# Altium schematic symbol library 5cstfd5.SchLib: 1 symbol
Pins are listed as number, name and electrical type; pins without a type are passive.

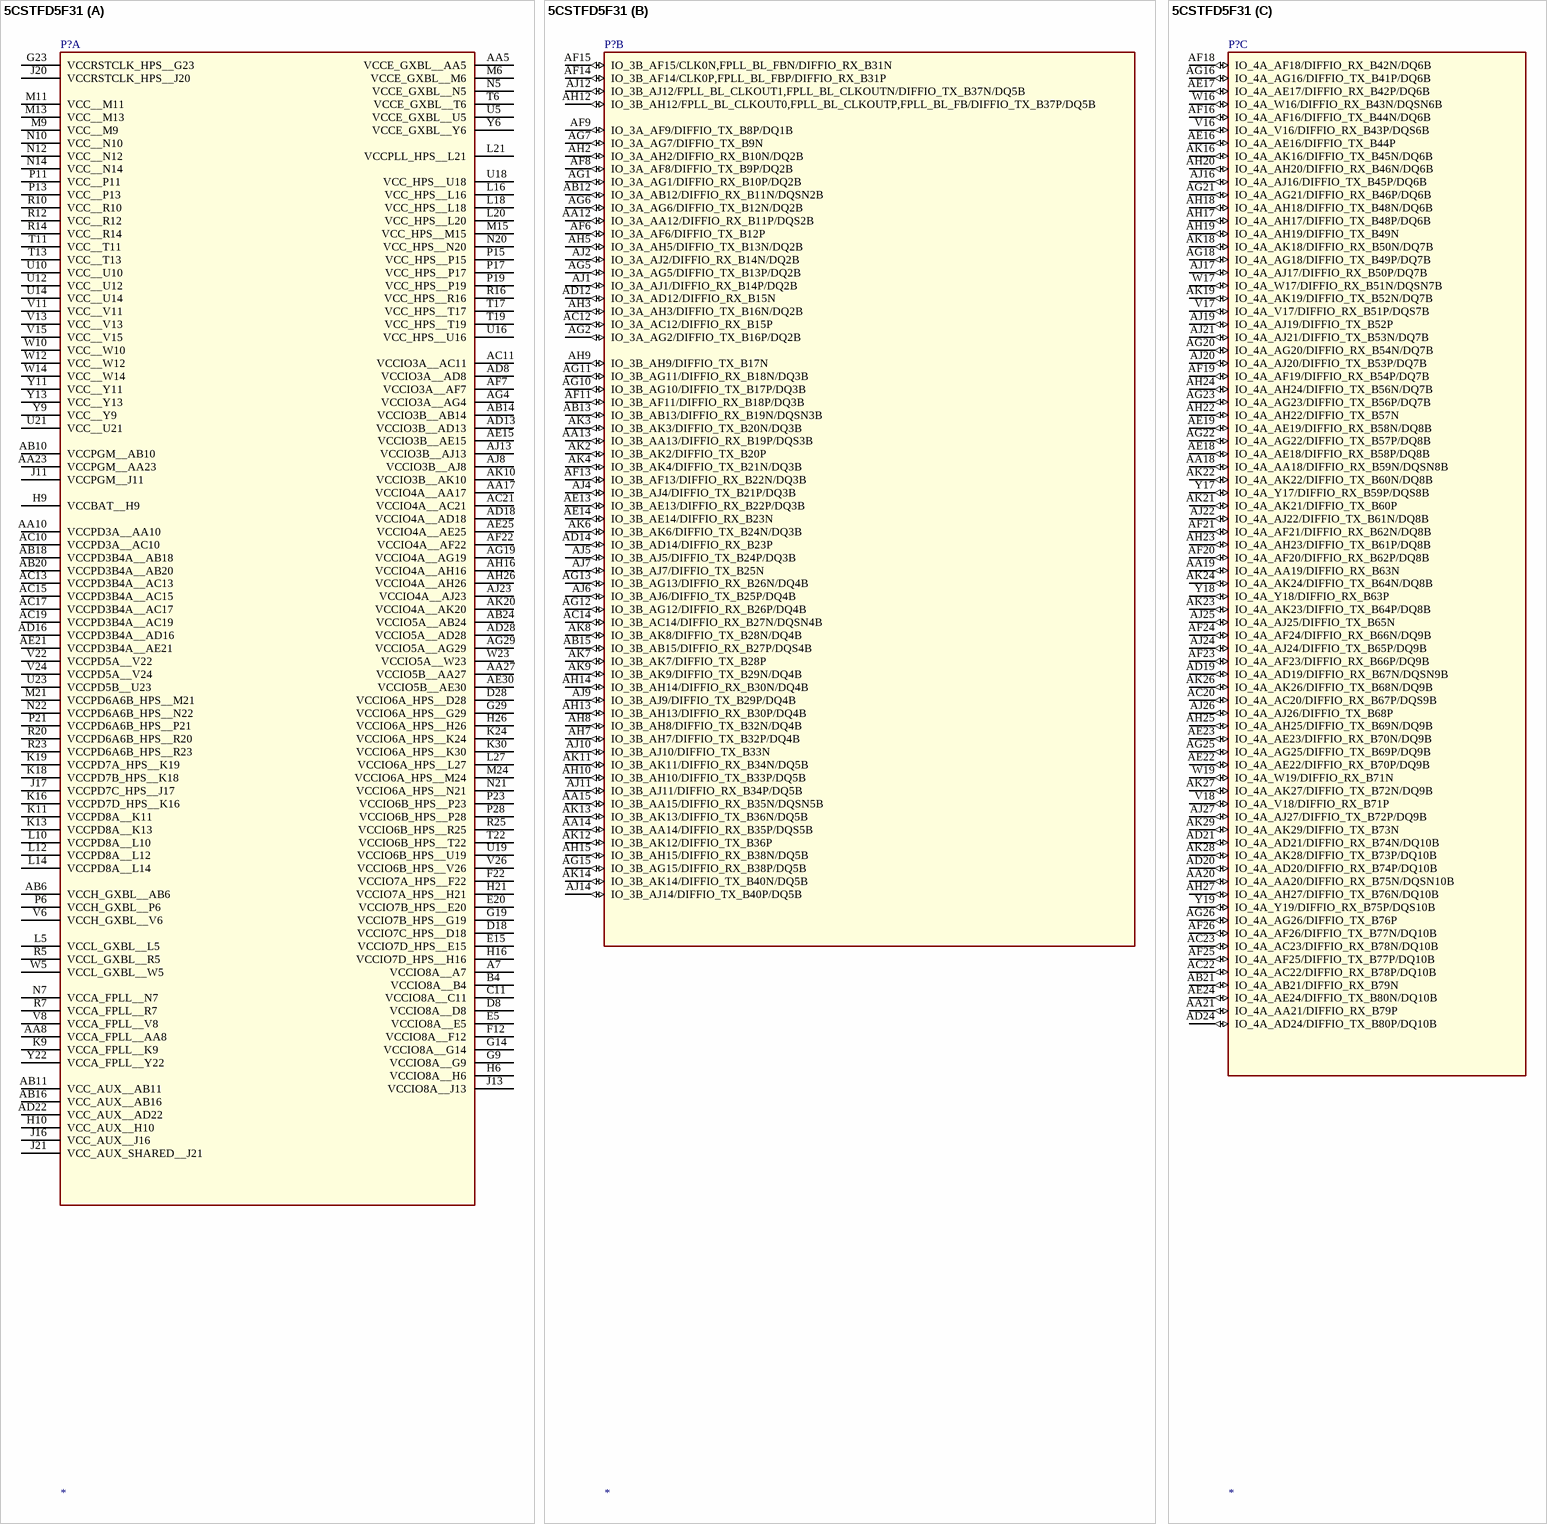
[diagram p0: symbol 5CSTFD5F31]

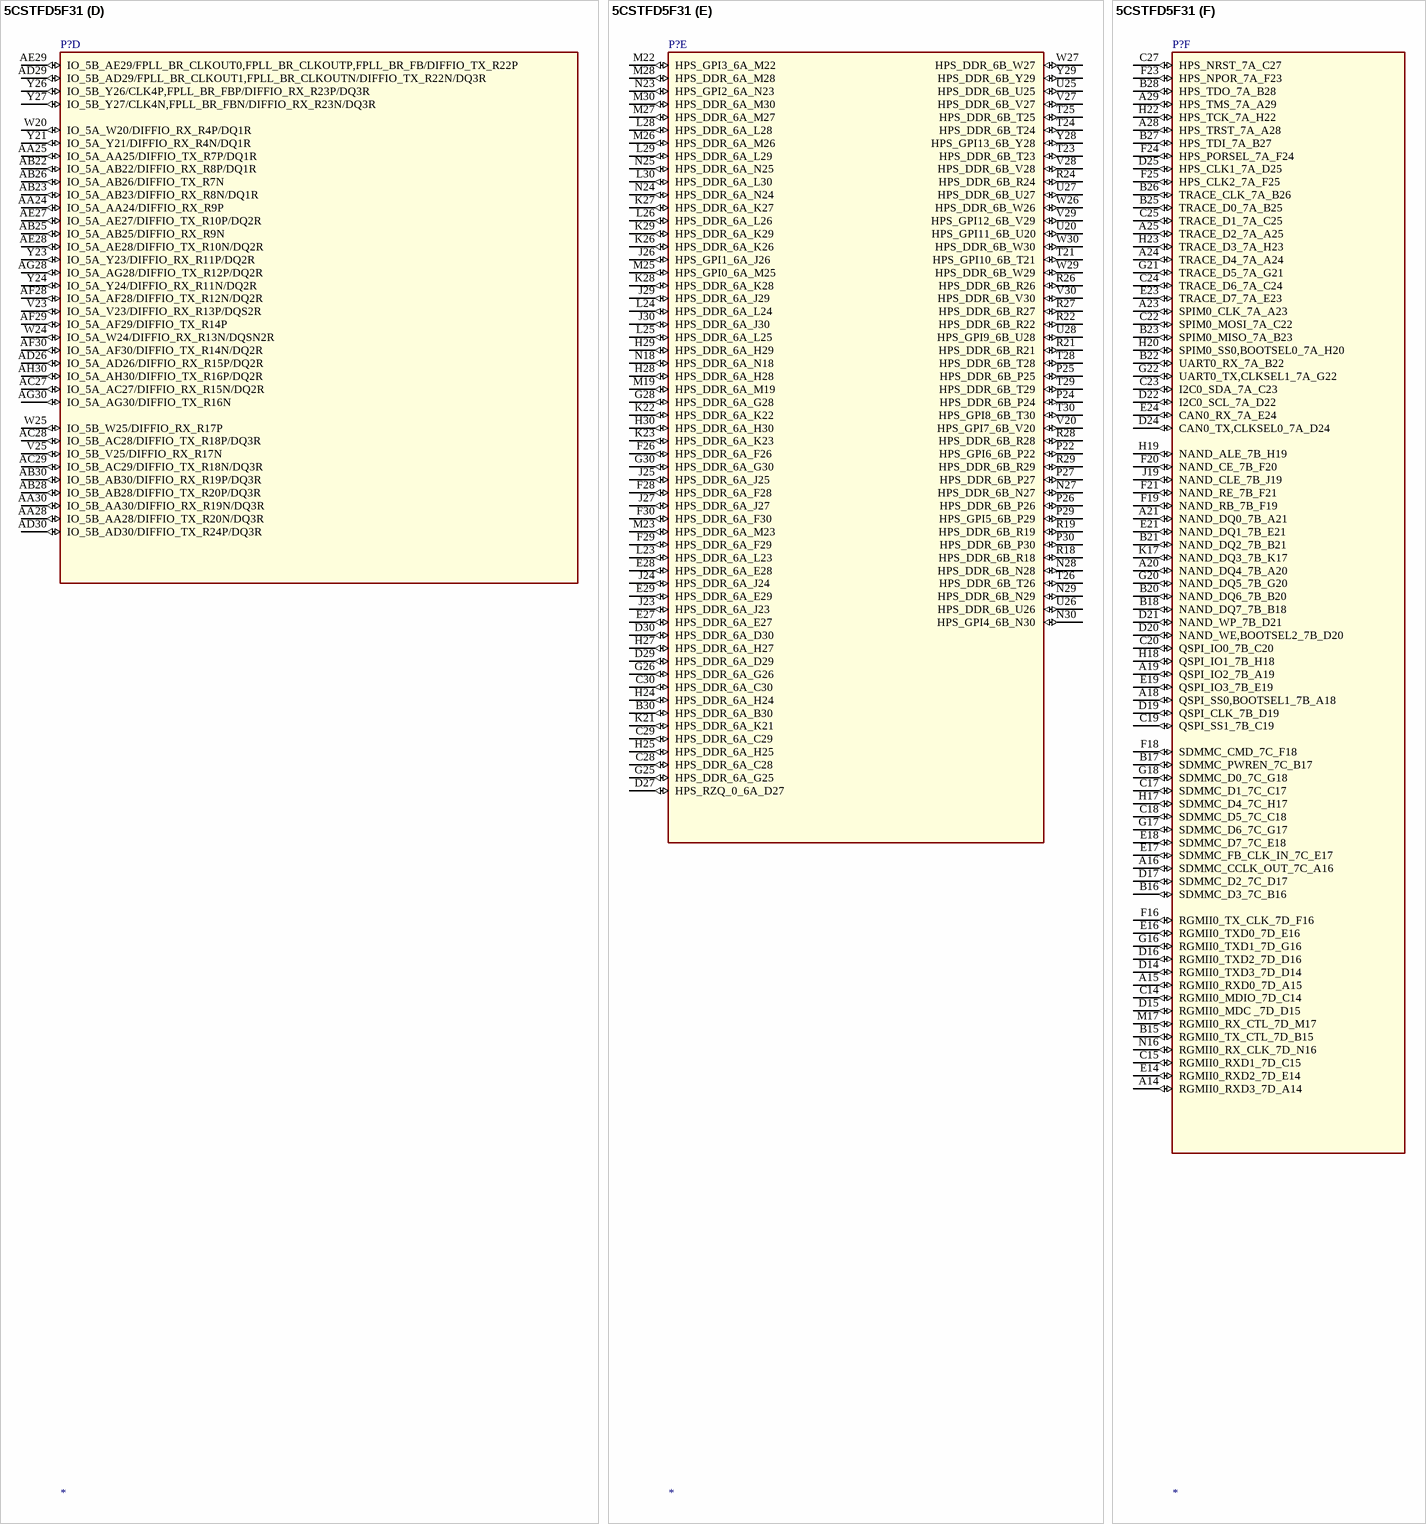
[diagram p1: symbol 5CSTFD5F31]

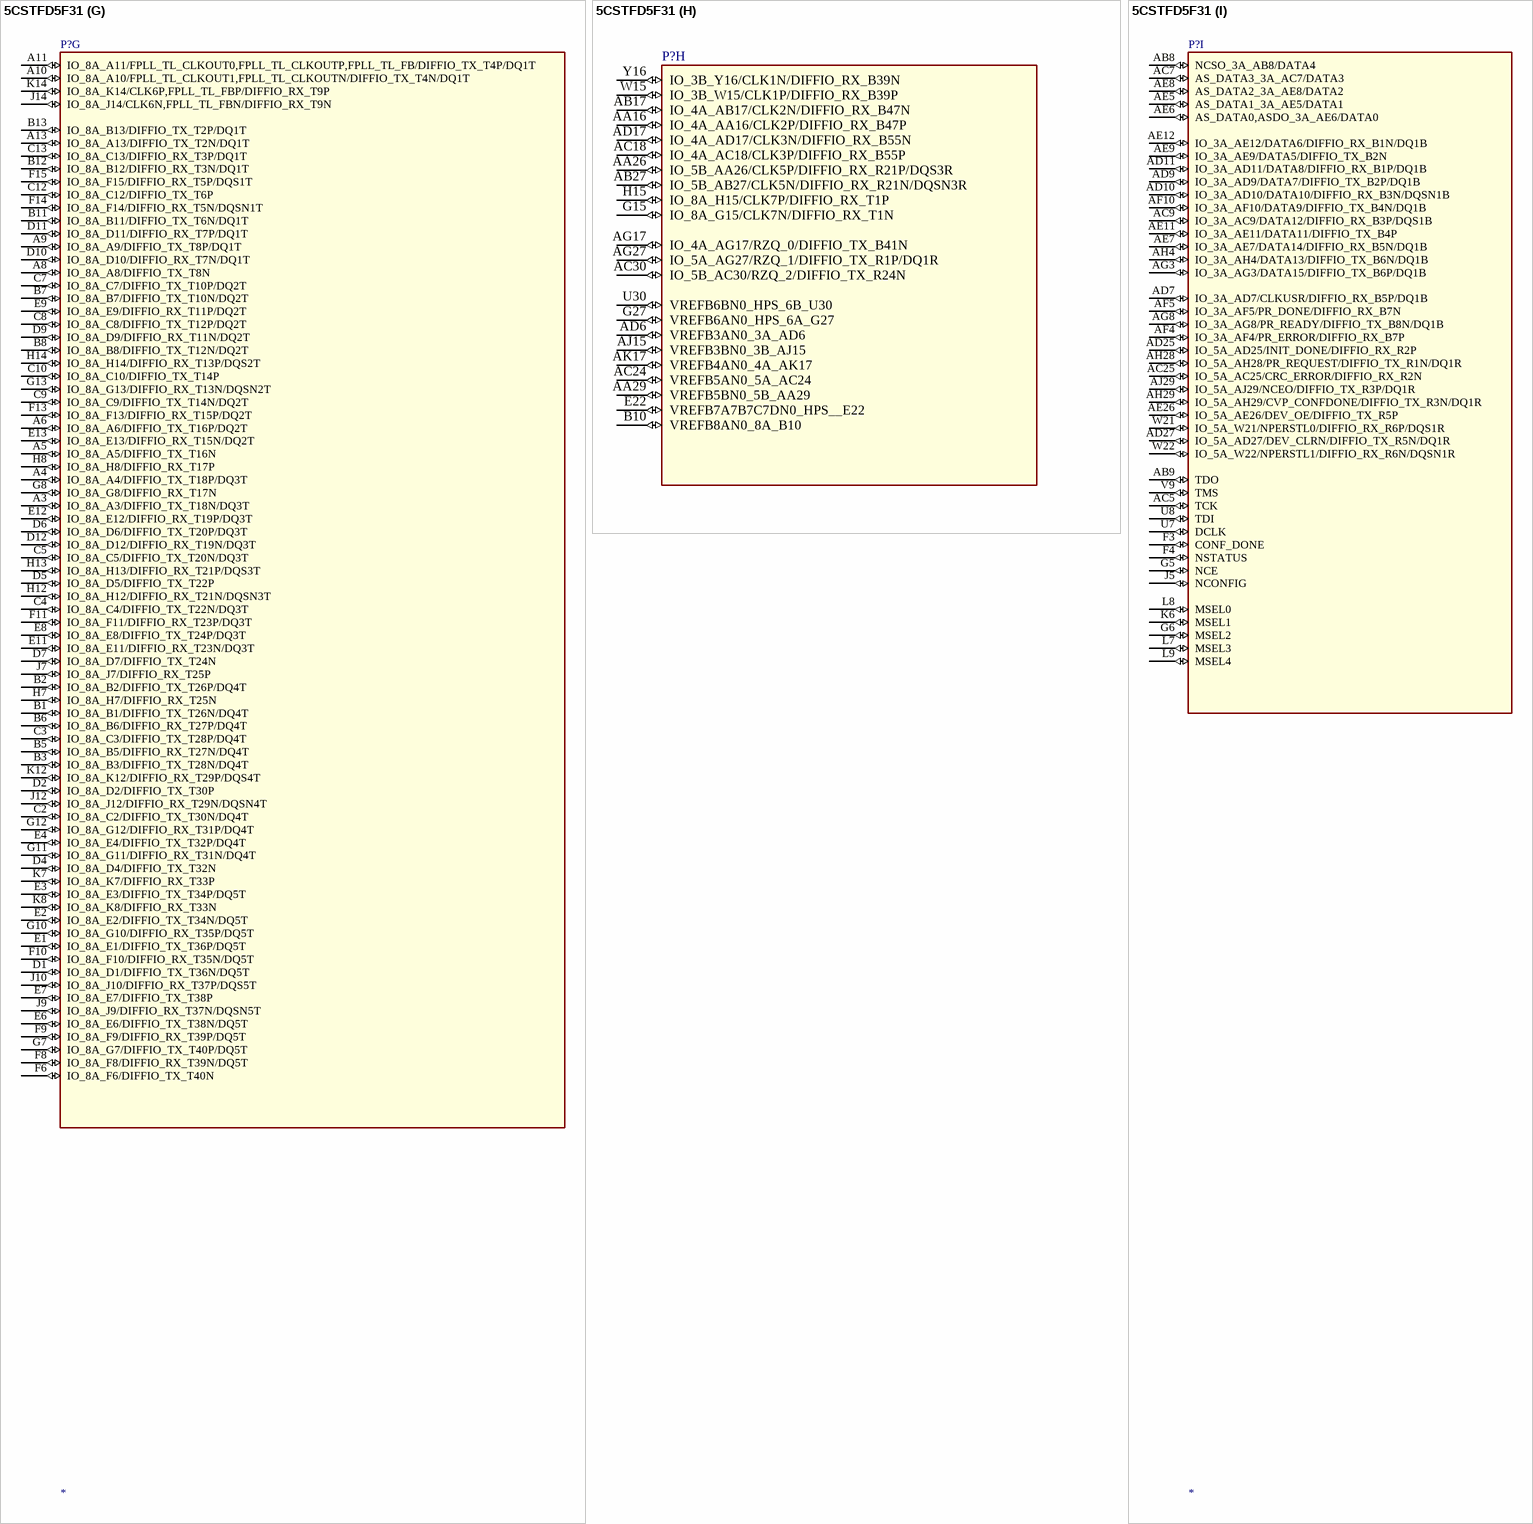
[diagram p2: symbol 5CSTFD5F31]

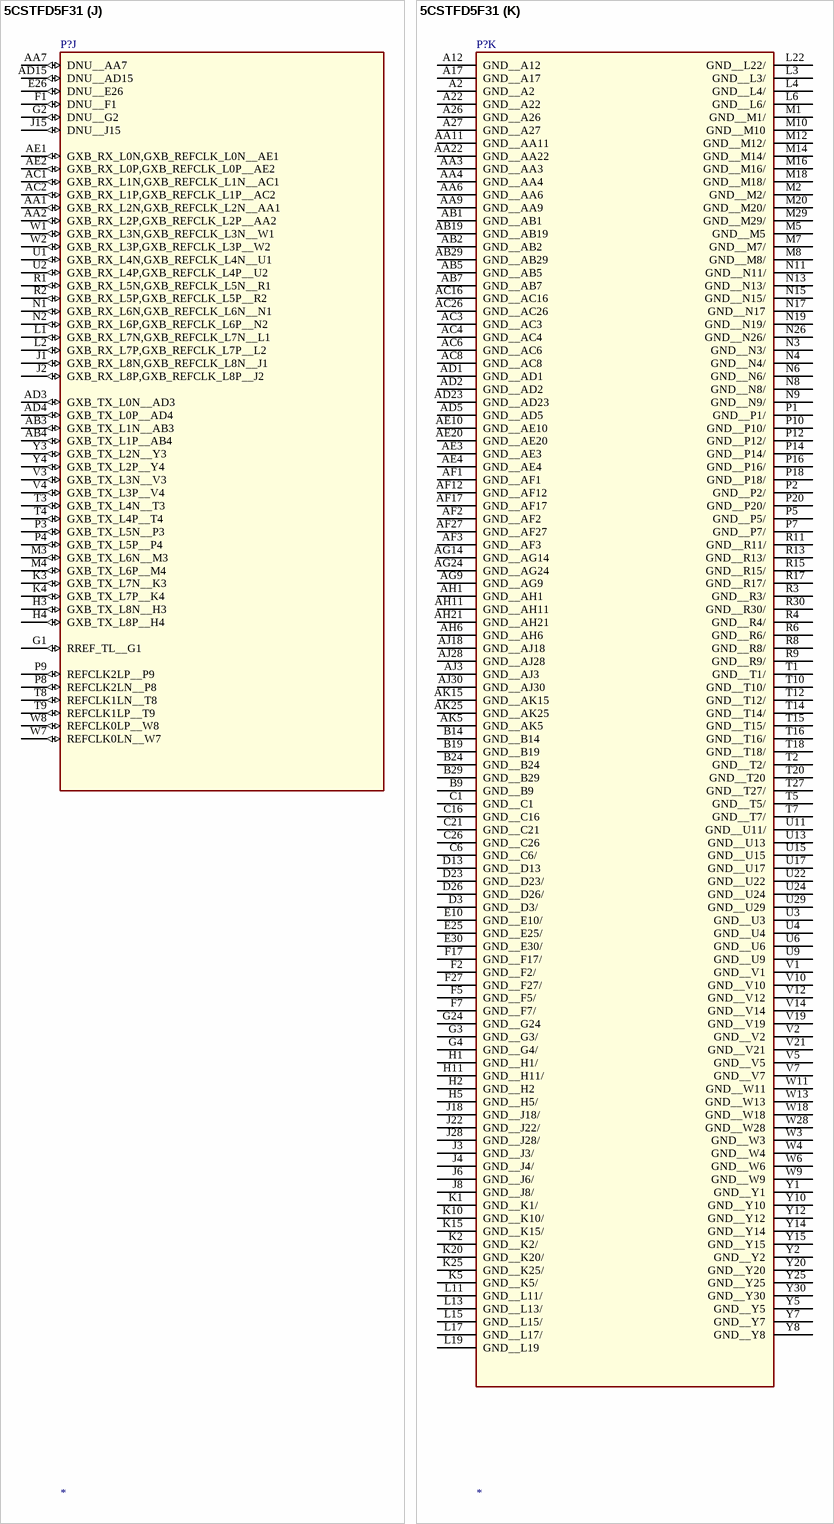
[diagram p3: symbol 5CSTFD5F31]

## 5CSTFD5F31
designator P?
SPLIT_INST: TRUE; SWAP_INFO: (S1+S2+S3+S4+S5+S6+S7+S8+S9+S10+S11)
part A pins: A7 VCCIO8A__A7 (power), AA5 VCCE_GXBL__AA5 (power), AA8 VCCA_FPLL__AA8 (power), AA10 VCCPD3A__AA10 (power), AA17 VCCIO4A__AA17 (power), AA23 VCCPGM__AA23 (power), AA27 VCCIO5B__AA27 (power), AB6 VCCH_GXBL__AB6 (power), AB10 VCCPGM__AB10 (power), AB11 VCC_AUX__AB11 (power), AB14 VCCIO3B__AB14 (power), AB16 VCC_AUX__AB16 (power), AB18 VCCPD3B4A__AB18 (power), AB20 VCCPD3B4A__AB20 (power), AB24 VCCIO5A__AB24 (power), AC10 VCCPD3A__AC10 (power), AC11 VCCIO3A__AC11 (power), AC13 VCCPD3B4A__AC13 (power), AC15 VCCPD3B4A__AC15 (power), AC17 VCCPD3B4A__AC17 (power), AC19 VCCPD3B4A__AC19 (power), AC21 VCCIO4A__AC21 (power), AD8 VCCIO3A__AD8 (power), AD13 VCCIO3B__AD13 (power), AD16 VCCPD3B4A__AD16 (power), AD18 VCCIO4A__AD18 (power), AD22 VCC_AUX__AD22 (power), AD28 VCCIO5A__AD28 (power), AE15 VCCIO3B__AE15 (power), AE21 VCCPD3B4A__AE21 (power), AE25 VCCIO4A__AE25 (power), AE30 VCCIO5B__AE30 (power), AF7 VCCIO3A__AF7 (power), AF22 VCCIO4A__AF22 (power), AG4 VCCIO3A__AG4 (power), AG19 VCCIO4A__AG19 (power), AG29 VCCIO5A__AG29 (power), AH16 VCCIO4A__AH16 (power), AH26 VCCIO4A__AH26 (power), AJ8 VCCIO3B__AJ8 (power), AJ13 VCCIO3B__AJ13 (power), AJ23 VCCIO4A__AJ23 (power), AK10 VCCIO3B__AK10 (power), AK20 VCCIO4A__AK20 (power), B4 VCCIO8A__B4 (power), C11 VCCIO8A__C11 (power), D8 VCCIO8A__D8 (power), D18 VCCIO7C_HPS__D18 (power), D28 VCCIO6A_HPS__D28 (power), E5 VCCIO8A__E5 (power), E15 VCCIO7D_HPS__E15 (power), E20 VCCIO7B_HPS__E20 (power), F12 VCCIO8A__F12 (power), F22 VCCIO7A_HPS__F22 (power), G9 VCCIO8A__G9 (power), G14 VCCIO8A__G14 (power), G19 VCCIO7B_HPS__G19 (power), G23 VCCRSTCLK_HPS__G23 (power), G29 VCCIO6A_HPS__G29 (power), H6 VCCIO8A__H6 (power), H9 VCCBAT__H9 (power), H10 VCC_AUX__H10 (power), H16 VCCIO7D_HPS__H16 (power), H21 VCCIO7A_HPS__H21 (power), H26 VCCIO6A_HPS__H26 (power), J11 VCCPGM__J11 (power), J13 VCCIO8A__J13 (power), J16 VCC_AUX__J16 (power), J17 VCCPD7C_HPS__J17 (power), J20 VCCRSTCLK_HPS__J20 (power), J21 VCC_AUX_SHARED__J21 (power), K9 VCCA_FPLL__K9 (power), K11 VCCPD8A__K11 (power), K13 VCCPD8A__K13 (power), K16 VCCPD7D_HPS__K16 (power), K18 VCCPD7B_HPS__K18 (power), K19 VCCPD7A_HPS__K19 (power), K24 VCCIO6A_HPS__K24 (power), K30 VCCIO6A_HPS__K30 (power), L5 VCCL_GXBL__L5 (power), L10 VCCPD8A__L10 (power), L12 VCCPD8A__L12 (power), L14 VCCPD8A__L14 (power), L16 VCC_HPS__L16 (power), L18 VCC_HPS__L18 (power), L20 VCC_HPS__L20 (power), L21 VCCPLL_HPS__L21 (power), L27 VCCIO6A_HPS__L27 (power), M6 VCCE_GXBL__M6 (power), M9 VCC__M9 (power), M11 VCC__M11 (power), M13 VCC__M13 (power), M15 VCC_HPS__M15 (power), M21 VCCPD6A6B_HPS__M21 (power), M24 VCCIO6A_HPS__M24 (power), N5 VCCE_GXBL__N5 (power), N7 VCCA_FPLL__N7 (power), N10 VCC__N10 (power), N12 VCC__N12 (power), N14 VCC__N14 (power), N20 VCC_HPS__N20 (power), N21 VCCIO6A_HPS__N21 (power), N22 VCCPD6A6B_HPS__N22 (power), P6 VCCH_GXBL__P6 (power), P11 VCC__P11 (power), P13 VCC__P13 (power), P15 VCC_HPS__P15 (power), P17 VCC_HPS__P17 (power), P19 VCC_HPS__P19 (power), P21 VCCPD6A6B_HPS__P21 (power), P23 VCCIO6B_HPS__P23 (power), P28 VCCIO6B_HPS__P28 (power), R5 VCCL_GXBL__R5 (power), R7 VCCA_FPLL__R7 (power), R10 VCC__R10 (power), R12 VCC__R12 (power), R14 VCC__R14 (power), R16 VCC_HPS__R16 (power), R20 VCCPD6A6B_HPS__R20 (power), R23 VCCPD6A6B_HPS__R23 (power), R25 VCCIO6B_HPS__R25 (power), T6 VCCE_GXBL__T6 (power), T11 VCC__T11 (power), T13 VCC__T13 (power), T17 VCC_HPS__T17 (power), T19 VCC_HPS__T19 (power), T22 VCCIO6B_HPS__T22 (power), U5 VCCE_GXBL__U5 (power), U10 VCC__U10 (power), U12 VCC__U12 (power), U14 VCC__U14 (power), U16 VCC_HPS__U16 (power), U18 VCC_HPS__U18 (power), U19 VCCIO6B_HPS__U19 (power), U21 VCC__U21 (power), U23 VCCPD5B__U23 (power), V6 VCCH_GXBL__V6 (power), V8 VCCA_FPLL__V8 (power), V11 VCC__V11 (power), V13 VCC__V13 (power), V15 VCC__V15 (power), V22 VCCPD5A__V22 (power), V24 VCCPD5A__V24 (power), V26 VCCIO6B_HPS__V26 (power), W5 VCCL_GXBL__W5 (power), W10 VCC__W10 (power), W12 VCC__W12 (power), W14 VCC__W14 (power), W23 VCCIO5A__W23 (power), Y6 VCCE_GXBL__Y6 (power), Y9 VCC__Y9 (power), Y11 VCC__Y11 (power), Y13 VCC__Y13 (power), Y22 VCCA_FPLL__Y22 (power)
part B pins: AA12 IO_3A_AA12/DIFFIO_RX_B11P/DQS2B (io), AA13 IO_3B_AA13/DIFFIO_RX_B19P/DQS3B (io), AA14 IO_3B_AA14/DIFFIO_RX_B35P/DQS5B (io), AA15 IO_3B_AA15/DIFFIO_RX_B35N/DQSN5B (io), AB12 IO_3A_AB12/DIFFIO_RX_B11N/DQSN2B (io), AB13 IO_3B_AB13/DIFFIO_RX_B19N/DQSN3B (io), AB15 IO_3B_AB15/DIFFIO_RX_B27P/DQS4B (io), AC12 IO_3A_AC12/DIFFIO_RX_B15P (io), AC14 IO_3B_AC14/DIFFIO_RX_B27N/DQSN4B (io), AD12 IO_3A_AD12/DIFFIO_RX_B15N (io), AD14 IO_3B_AD14/DIFFIO_RX_B23P (io), AE13 IO_3B_AE13/DIFFIO_RX_B22P/DQ3B (io), AE14 IO_3B_AE14/DIFFIO_RX_B23N (io), AF6 IO_3A_AF6/DIFFIO_TX_B12P (io), AF8 IO_3A_AF8/DIFFIO_TX_B9P/DQ2B (io), AF9 IO_3A_AF9/DIFFIO_TX_B8P/DQ1B (io), AF11 IO_3B_AF11/DIFFIO_RX_B18P/DQ3B (io), AF13 IO_3B_AF13/DIFFIO_RX_B22N/DQ3B (io), AF14 IO_3B_AF14/CLK0P,FPLL_BL_FBP/DIFFIO_RX_B31P (io), AF15 IO_3B_AF15/CLK0N,FPLL_BL_FBN/DIFFIO_RX_B31N (io), AG1 IO_3A_AG1/DIFFIO_RX_B10P/DQ2B (io), AG2 IO_3A_AG2/DIFFIO_TX_B16P/DQ2B (io), AG5 IO_3A_AG5/DIFFIO_TX_B13P/DQ2B (io), AG6 IO_3A_AG6/DIFFIO_TX_B12N/DQ2B (io), AG7 IO_3A_AG7/DIFFIO_TX_B9N (io), AG10 IO_3B_AG10/DIFFIO_TX_B17P/DQ3B (io), AG11 IO_3B_AG11/DIFFIO_RX_B18N/DQ3B (io), AG12 IO_3B_AG12/DIFFIO_RX_B26P/DQ4B (io), AG13 IO_3B_AG13/DIFFIO_RX_B26N/DQ4B (io), AG15 IO_3B_AG15/DIFFIO_RX_B38P/DQ5B (io), AH2 IO_3A_AH2/DIFFIO_RX_B10N/DQ2B (io), AH3 IO_3A_AH3/DIFFIO_TX_B16N/DQ2B (io), AH5 IO_3A_AH5/DIFFIO_TX_B13N/DQ2B (io), AH7 IO_3B_AH7/DIFFIO_TX_B32P/DQ4B (io), AH8 IO_3B_AH8/DIFFIO_TX_B32N/DQ4B (io), AH9 IO_3B_AH9/DIFFIO_TX_B17N (io), AH10 IO_3B_AH10/DIFFIO_TX_B33P/DQ5B (io), AH12 IO_3B_AH12/FPLL_BL_CLKOUT0,FPLL_BL_CLKOUTP,FPLL_BL_FB/DIFFIO_TX_B37P/DQ5B (io), AH13 IO_3B_AH13/DIFFIO_RX_B30P/DQ4B (io), AH14 IO_3B_AH14/DIFFIO_RX_B30N/DQ4B (io), AH15 IO_3B_AH15/DIFFIO_RX_B38N/DQ5B (io), AJ1 IO_3A_AJ1/DIFFIO_RX_B14P/DQ2B (io), AJ2 IO_3A_AJ2/DIFFIO_RX_B14N/DQ2B (io), AJ4 IO_3B_AJ4/DIFFIO_TX_B21P/DQ3B (io), AJ5 IO_3B_AJ5/DIFFIO_TX_B24P/DQ3B (io), AJ6 IO_3B_AJ6/DIFFIO_TX_B25P/DQ4B (io), AJ7 IO_3B_AJ7/DIFFIO_TX_B25N (io), AJ9 IO_3B_AJ9/DIFFIO_TX_B29P/DQ4B (io), AJ10 IO_3B_AJ10/DIFFIO_TX_B33N (io), AJ11 IO_3B_AJ11/DIFFIO_RX_B34P/DQ5B (io), AJ12 IO_3B_AJ12/FPLL_BL_CLKOUT1,FPLL_BL_CLKOUTN/DIFFIO_TX_B37N/DQ5B (io), AJ14 IO_3B_AJ14/DIFFIO_TX_B40P/DQ5B (io), AK2 IO_3B_AK2/DIFFIO_TX_B20P (io), AK3 IO_3B_AK3/DIFFIO_TX_B20N/DQ3B (io), AK4 IO_3B_AK4/DIFFIO_TX_B21N/DQ3B (io), AK6 IO_3B_AK6/DIFFIO_TX_B24N/DQ3B (io), AK7 IO_3B_AK7/DIFFIO_TX_B28P (io), AK8 IO_3B_AK8/DIFFIO_TX_B28N/DQ4B (io), AK9 IO_3B_AK9/DIFFIO_TX_B29N/DQ4B (io), AK11 IO_3B_AK11/DIFFIO_RX_B34N/DQ5B (io), AK12 IO_3B_AK12/DIFFIO_TX_B36P (io), AK13 IO_3B_AK13/DIFFIO_TX_B36N/DQ5B (io), AK14 IO_3B_AK14/DIFFIO_TX_B40N/DQ5B (io)
part C pins: AA18 IO_4A_AA18/DIFFIO_RX_B59N/DQSN8B (io), AA19 IO_4A_AA19/DIFFIO_RX_B63N (io), AA20 IO_4A_AA20/DIFFIO_RX_B75N/DQSN10B (io), AA21 IO_4A_AA21/DIFFIO_RX_B79P (io), AB21 IO_4A_AB21/DIFFIO_RX_B79N (io), AC20 IO_4A_AC20/DIFFIO_RX_B67P/DQS9B (io), AC22 IO_4A_AC22/DIFFIO_RX_B78P/DQ10B (io), AC23 IO_4A_AC23/DIFFIO_RX_B78N/DQ10B (io), AD19 IO_4A_AD19/DIFFIO_RX_B67N/DQSN9B (io), AD20 IO_4A_AD20/DIFFIO_RX_B74P/DQ10B (io), AD21 IO_4A_AD21/DIFFIO_RX_B74N/DQ10B (io), AD24 IO_4A_AD24/DIFFIO_TX_B80P/DQ10B (io), AE16 IO_4A_AE16/DIFFIO_TX_B44P (io), AE17 IO_4A_AE17/DIFFIO_RX_B42P/DQ6B (io), AE18 IO_4A_AE18/DIFFIO_RX_B58P/DQ8B (io), AE19 IO_4A_AE19/DIFFIO_RX_B58N/DQ8B (io), AE22 IO_4A_AE22/DIFFIO_RX_B70P/DQ9B (io), AE23 IO_4A_AE23/DIFFIO_RX_B70N/DQ9B (io), AE24 IO_4A_AE24/DIFFIO_TX_B80N/DQ10B (io), AF16 IO_4A_AF16/DIFFIO_TX_B44N/DQ6B (io), AF18 IO_4A_AF18/DIFFIO_RX_B42N/DQ6B (io), AF19 IO_4A_AF19/DIFFIO_RX_B54P/DQ7B (io), AF20 IO_4A_AF20/DIFFIO_RX_B62P/DQ8B (io), AF21 IO_4A_AF21/DIFFIO_RX_B62N/DQ8B (io), AF23 IO_4A_AF23/DIFFIO_RX_B66P/DQ9B (io), AF24 IO_4A_AF24/DIFFIO_RX_B66N/DQ9B (io), AF25 IO_4A_AF25/DIFFIO_TX_B77P/DQ10B (io), AF26 IO_4A_AF26/DIFFIO_TX_B77N/DQ10B (io), AG16 IO_4A_AG16/DIFFIO_TX_B41P/DQ6B (io), AG18 IO_4A_AG18/DIFFIO_TX_B49P/DQ7B (io), AG20 IO_4A_AG20/DIFFIO_RX_B54N/DQ7B (io), AG21 IO_4A_AG21/DIFFIO_RX_B46P/DQ6B (io), AG22 IO_4A_AG22/DIFFIO_TX_B57P/DQ8B (io), AG23 IO_4A_AG23/DIFFIO_TX_B56P/DQ7B (io), AG25 IO_4A_AG25/DIFFIO_TX_B69P/DQ9B (io), AG26 IO_4A_AG26/DIFFIO_TX_B76P (io), AH17 IO_4A_AH17/DIFFIO_TX_B48P/DQ6B (io), AH18 IO_4A_AH18/DIFFIO_TX_B48N/DQ6B (io), AH19 IO_4A_AH19/DIFFIO_TX_B49N (io), AH20 IO_4A_AH20/DIFFIO_RX_B46N/DQ6B (io), AH22 IO_4A_AH22/DIFFIO_TX_B57N (io), AH23 IO_4A_AH23/DIFFIO_TX_B61P/DQ8B (io), AH24 IO_4A_AH24/DIFFIO_TX_B56N/DQ7B (io), AH25 IO_4A_AH25/DIFFIO_TX_B69N/DQ9B (io), AH27 IO_4A_AH27/DIFFIO_TX_B76N/DQ10B (io), AJ16 IO_4A_AJ16/DIFFIO_TX_B45P/DQ6B (io), AJ17 IO_4A_AJ17/DIFFIO_RX_B50P/DQ7B (io), AJ19 IO_4A_AJ19/DIFFIO_TX_B52P (io), AJ20 IO_4A_AJ20/DIFFIO_TX_B53P/DQ7B (io), AJ21 IO_4A_AJ21/DIFFIO_TX_B53N/DQ7B (io), AJ22 IO_4A_AJ22/DIFFIO_TX_B61N/DQ8B (io), AJ24 IO_4A_AJ24/DIFFIO_TX_B65P/DQ9B (io), AJ25 IO_4A_AJ25/DIFFIO_TX_B65N (io), AJ26 IO_4A_AJ26/DIFFIO_TX_B68P (io), AJ27 IO_4A_AJ27/DIFFIO_TX_B72P/DQ9B (io), AK16 IO_4A_AK16/DIFFIO_TX_B45N/DQ6B (io), AK18 IO_4A_AK18/DIFFIO_RX_B50N/DQ7B (io), AK19 IO_4A_AK19/DIFFIO_TX_B52N/DQ7B (io), AK21 IO_4A_AK21/DIFFIO_TX_B60P (io), AK22 IO_4A_AK22/DIFFIO_TX_B60N/DQ8B (io), AK23 IO_4A_AK23/DIFFIO_TX_B64P/DQ8B (io), AK24 IO_4A_AK24/DIFFIO_TX_B64N/DQ8B (io), AK26 IO_4A_AK26/DIFFIO_TX_B68N/DQ9B (io), AK27 IO_4A_AK27/DIFFIO_TX_B72N/DQ9B (io), AK28 IO_4A_AK28/DIFFIO_TX_B73P/DQ10B (io), AK29 IO_4A_AK29/DIFFIO_TX_B73N (io), V16 IO_4A_V16/DIFFIO_RX_B43P/DQS6B (io), V17 IO_4A_V17/DIFFIO_RX_B51P/DQS7B (io), V18 IO_4A_V18/DIFFIO_RX_B71P (io), W16 IO_4A_W16/DIFFIO_RX_B43N/DQSN6B (io), W17 IO_4A_W17/DIFFIO_RX_B51N/DQSN7B (io), W19 IO_4A_W19/DIFFIO_RX_B71N (io), Y17 IO_4A_Y17/DIFFIO_RX_B59P/DQS8B (io), Y18 IO_4A_Y18/DIFFIO_RX_B63P (io), Y19 IO_4A_Y19/DIFFIO_RX_B75P/DQS10B (io)
part D pins: AA24 IO_5A_AA24/DIFFIO_RX_R9P (io), AA25 IO_5A_AA25/DIFFIO_TX_R7P/DQ1R (io), AA28 IO_5B_AA28/DIFFIO_TX_R20N/DQ3R (io), AA30 IO_5B_AA30/DIFFIO_RX_R19N/DQ3R (io), AB22 IO_5A_AB22/DIFFIO_RX_R8P/DQ1R (io), AB23 IO_5A_AB23/DIFFIO_RX_R8N/DQ1R (io), AB25 IO_5A_AB25/DIFFIO_RX_R9N (io), AB26 IO_5A_AB26/DIFFIO_TX_R7N (io), AB28 IO_5B_AB28/DIFFIO_TX_R20P/DQ3R (io), AB30 IO_5B_AB30/DIFFIO_RX_R19P/DQ3R (io), AC27 IO_5A_AC27/DIFFIO_RX_R15N/DQ2R (io), AC28 IO_5B_AC28/DIFFIO_TX_R18P/DQ3R (io), AC29 IO_5B_AC29/DIFFIO_TX_R18N/DQ3R (io), AD26 IO_5A_AD26/DIFFIO_RX_R15P/DQ2R (io), AD29 IO_5B_AD29/FPLL_BR_CLKOUT1,FPLL_BR_CLKOUTN/DIFFIO_TX_R22N/DQ3R (io), AD30 IO_5B_AD30/DIFFIO_TX_R24P/DQ3R (io), AE27 IO_5A_AE27/DIFFIO_TX_R10P/DQ2R (io), AE28 IO_5A_AE28/DIFFIO_TX_R10N/DQ2R (io), AE29 IO_5B_AE29/FPLL_BR_CLKOUT0,FPLL_BR_CLKOUTP,FPLL_BR_FB/DIFFIO_TX_R22P (io), AF28 IO_5A_AF28/DIFFIO_TX_R12N/DQ2R (io), AF29 IO_5A_AF29/DIFFIO_TX_R14P (io), AF30 IO_5A_AF30/DIFFIO_TX_R14N/DQ2R (io), AG28 IO_5A_AG28/DIFFIO_TX_R12P/DQ2R (io), AG30 IO_5A_AG30/DIFFIO_TX_R16N (io), AH30 IO_5A_AH30/DIFFIO_TX_R16P/DQ2R (io), V23 IO_5A_V23/DIFFIO_RX_R13P/DQS2R (io), V25 IO_5B_V25/DIFFIO_RX_R17N (io), W20 IO_5A_W20/DIFFIO_RX_R4P/DQ1R (io), W24 IO_5A_W24/DIFFIO_RX_R13N/DQSN2R (io), W25 IO_5B_W25/DIFFIO_RX_R17P (io), Y21 IO_5A_Y21/DIFFIO_RX_R4N/DQ1R (io), Y23 IO_5A_Y23/DIFFIO_RX_R11P/DQ2R (io), Y24 IO_5A_Y24/DIFFIO_RX_R11N/DQ2R (io), Y26 IO_5B_Y26/CLK4P,FPLL_BR_FBP/DIFFIO_RX_R23P/DQ3R (io), Y27 IO_5B_Y27/CLK4N,FPLL_BR_FBN/DIFFIO_RX_R23N/DQ3R (io)
part E pins: B30 HPS_DDR_6A_B30 (io), C28 HPS_DDR_6A_C28 (io), C29 HPS_DDR_6A_C29 (io), C30 HPS_DDR_6A_C30 (io), D27 HPS_RZQ_0_6A_D27 (io), D29 HPS_DDR_6A_D29 (io), D30 HPS_DDR_6A_D30 (io), E27 HPS_DDR_6A_E27 (io), E28 HPS_DDR_6A_E28 (io), E29 HPS_DDR_6A_E29 (io), F26 HPS_DDR_6A_F26 (io), F28 HPS_DDR_6A_F28 (io), F29 HPS_DDR_6A_F29 (io), F30 HPS_DDR_6A_F30 (io), G25 HPS_DDR_6A_G25 (io), G26 HPS_DDR_6A_G26 (io), G28 HPS_DDR_6A_G28 (io), G30 HPS_DDR_6A_G30 (io), H24 HPS_DDR_6A_H24 (io), H25 HPS_DDR_6A_H25 (io), H27 HPS_DDR_6A_H27 (io), H28 HPS_DDR_6A_H28 (io), H29 HPS_DDR_6A_H29 (io), H30 HPS_DDR_6A_H30 (io), J23 HPS_DDR_6A_J23 (io), J24 HPS_DDR_6A_J24 (io), J25 HPS_DDR_6A_J25 (io), J26 HPS_GPI1_6A_J26 (io), J27 HPS_DDR_6A_J27 (io), J29 HPS_DDR_6A_J29 (io), J30 HPS_DDR_6A_J30 (io), K21 HPS_DDR_6A_K21 (io), K22 HPS_DDR_6A_K22 (io), K23 HPS_DDR_6A_K23 (io), K26 HPS_DDR_6A_K26 (io), K27 HPS_DDR_6A_K27 (io), K28 HPS_DDR_6A_K28 (io), K29 HPS_DDR_6A_K29 (io), L23 HPS_DDR_6A_L23 (io), L24 HPS_DDR_6A_L24 (io), L25 HPS_DDR_6A_L25 (io), L26 HPS_DDR_6A_L26 (io), L28 HPS_DDR_6A_L28 (io), L29 HPS_DDR_6A_L29 (io), L30 HPS_DDR_6A_L30 (io), M19 HPS_DDR_6A_M19 (io), M22 HPS_GPI3_6A_M22 (io), M23 HPS_DDR_6A_M23 (io), M25 HPS_GPI0_6A_M25 (io), M26 HPS_DDR_6A_M26 (io), M27 HPS_DDR_6A_M27 (io), M28 HPS_DDR_6A_M28 (io), M30 HPS_DDR_6A_M30 (io), N18 HPS_DDR_6A_N18 (io), N23 HPS_GPI2_6A_N23 (io), N24 HPS_DDR_6A_N24 (io), N25 HPS_DDR_6A_N25 (io), N27 HPS_DDR_6B_N27 (io), N28 HPS_DDR_6B_N28 (io), N29 HPS_DDR_6B_N29 (io), N30 HPS_GPI4_6B_N30 (io), P22 HPS_GPI6_6B_P22 (io), P24 HPS_DDR_6B_P24 (io), P25 HPS_DDR_6B_P25 (io), P26 HPS_DDR_6B_P26 (io), P27 HPS_DDR_6B_P27 (io), P29 HPS_GPI5_6B_P29 (io), P30 HPS_DDR_6B_P30 (io), R18 HPS_DDR_6B_R18 (io), R19 HPS_DDR_6B_R19 (io), R21 HPS_DDR_6B_R21 (io), R22 HPS_DDR_6B_R22 (io), R24 HPS_DDR_6B_R24 (io), R26 HPS_DDR_6B_R26 (io), R27 HPS_DDR_6B_R27 (io), R28 HPS_DDR_6B_R28 (io), R29 HPS_DDR_6B_R29 (io), T21 HPS_GPI10_6B_T21 (io), T23 HPS_DDR_6B_T23 (io), T24 HPS_DDR_6B_T24 (io), T25 HPS_DDR_6B_T25 (io), T26 HPS_DDR_6B_T26 (io), T28 HPS_DDR_6B_T28 (io), T29 HPS_DDR_6B_T29 (io), T30 HPS_GPI8_6B_T30 (io), U20 HPS_GPI11_6B_U20 (io), U25 HPS_DDR_6B_U25 (io), U26 HPS_DDR_6B_U26 (io), U27 HPS_DDR_6B_U27 (io), U28 HPS_GPI9_6B_U28 (io), V20 HPS_GPI7_6B_V20 (io), V27 HPS_DDR_6B_V27 (io), V28 HPS_DDR_6B_V28 (io), V29 HPS_GPI12_6B_V29 (io), V30 HPS_DDR_6B_V30 (io), W26 HPS_DDR_6B_W26 (io), W27 HPS_DDR_6B_W27 (io), W29 HPS_DDR_6B_W29 (io), W30 HPS_DDR_6B_W30 (io), Y28 HPS_GPI13_6B_Y28 (io), Y29 HPS_DDR_6B_Y29 (io)
part F pins: A14 RGMII0_RXD3_7D_A14 (io), A15 RGMII0_RXD0_7D_A15 (io), A16 SDMMC_CCLK_OUT_7C_A16 (io), A18 QSPI_SS0,BOOTSEL1_7B_A18 (io), A19 QSPI_IO2_7B_A19 (io), A20 NAND_DQ4_7B_A20 (io), A21 NAND_DQ0_7B_A21 (io), A23 SPIM0_CLK_7A_A23 (io), A24 TRACE_D4_7A_A24 (io), A25 TRACE_D2_7A_A25 (io), A28 HPS_TRST_7A_A28 (io), A29 HPS_TMS_7A_A29 (io), B15 RGMII0_TX_CTL_7D_B15 (io), B16 SDMMC_D3_7C_B16 (io), B17 SDMMC_PWREN_7C_B17 (io), B18 NAND_DQ7_7B_B18 (io), B20 NAND_DQ6_7B_B20 (io), B21 NAND_DQ2_7B_B21 (io), B22 UART0_RX_7A_B22 (io), B23 SPIM0_MISO_7A_B23 (io), B25 TRACE_D0_7A_B25 (io), B26 TRACE_CLK_7A_B26 (io), B27 HPS_TDI_7A_B27 (io), B28 HPS_TDO_7A_B28 (io), C14 RGMII0_MDIO_7D_C14 (io), C15 RGMII0_RXD1_7D_C15 (io), C17 SDMMC_D1_7C_C17 (io), C18 SDMMC_D5_7C_C18 (io), C19 QSPI_SS1_7B_C19 (io), C20 QSPI_IO0_7B_C20 (io), C22 SPIM0_MOSI_7A_C22 (io), C23 I2C0_SDA_7A_C23 (io), C24 TRACE_D6_7A_C24 (io), C25 TRACE_D1_7A_C25 (io), C27 HPS_NRST_7A_C27 (io), D14 RGMII0_TXD3_7D_D14 (io), D15 RGMII0_MDC _7D_D15 (io), D16 RGMII0_TXD2_7D_D16 (io), D17 SDMMC_D2_7C_D17 (io), D19 QSPI_CLK_7B_D19 (io), D20 NAND_WE,BOOTSEL2_7B_D20 (io), D21 NAND_WP_7B_D21 (io), D22 I2C0_SCL_7A_D22 (io), D24 CAN0_TX,CLKSEL0_7A_D24 (io), D25 HPS_CLK1_7A_D25 (io), E14 RGMII0_RXD2_7D_E14 (io), E16 RGMII0_TXD0_7D_E16 (io), E17 SDMMC_FB_CLK_IN_7C_E17 (io), E18 SDMMC_D7_7C_E18 (io), E19 QSPI_IO3_7B_E19 (io), E21 NAND_DQ1_7B_E21 (io), E23 TRACE_D7_7A_E23 (io), E24 CAN0_RX_7A_E24 (io), F16 RGMII0_TX_CLK_7D_F16 (io), F18 SDMMC_CMD_7C_F18 (io), F19 NAND_RB_7B_F19 (io), F20 NAND_CE_7B_F20 (io), F21 NAND_RE_7B_F21 (io), F23 HPS_NPOR_7A_F23 (io), F24 HPS_PORSEL_7A_F24 (io), F25 HPS_CLK2_7A_F25 (io), G16 RGMII0_TXD1_7D_G16 (io), G17 SDMMC_D6_7C_G17 (io), G18 SDMMC_D0_7C_G18 (io), G20 NAND_DQ5_7B_G20 (io), G21 TRACE_D5_7A_G21 (io), G22 UART0_TX,CLKSEL1_7A_G22 (io), H17 SDMMC_D4_7C_H17 (io), H18 QSPI_IO1_7B_H18 (io), H19 NAND_ALE_7B_H19 (io), H20 SPIM0_SS0,BOOTSEL0_7A_H20 (io), H22 HPS_TCK_7A_H22 (io), H23 TRACE_D3_7A_H23 (io), J19 NAND_CLE_7B_J19 (io), K17 NAND_DQ3_7B_K17 (io), M17 RGMII0_RX_CTL_7D_M17 (io), N16 RGMII0_RX_CLK_7D_N16 (io)
part G pins: A3 IO_8A_A3/DIFFIO_TX_T18N/DQ3T (io), A4 IO_8A_A4/DIFFIO_TX_T18P/DQ3T (io), A5 IO_8A_A5/DIFFIO_TX_T16N (io), A6 IO_8A_A6/DIFFIO_TX_T16P/DQ2T (io), A8 IO_8A_A8/DIFFIO_TX_T8N (io), A9 IO_8A_A9/DIFFIO_TX_T8P/DQ1T (io), A10 IO_8A_A10/FPLL_TL_CLKOUT1,FPLL_TL_CLKOUTN/DIFFIO_TX_T4N/DQ1T (io), A11 IO_8A_A11/FPLL_TL_CLKOUT0,FPLL_TL_CLKOUTP,FPLL_TL_FB/DIFFIO_TX_T4P/DQ1T (io), A13 IO_8A_A13/DIFFIO_TX_T2N/DQ1T (io), B1 IO_8A_B1/DIFFIO_TX_T26N/DQ4T (io), B2 IO_8A_B2/DIFFIO_TX_T26P/DQ4T (io), B3 IO_8A_B3/DIFFIO_TX_T28N/DQ4T (io), B5 IO_8A_B5/DIFFIO_RX_T27N/DQ4T (io), B6 IO_8A_B6/DIFFIO_RX_T27P/DQ4T (io), B7 IO_8A_B7/DIFFIO_TX_T10N/DQ2T (io), B8 IO_8A_B8/DIFFIO_TX_T12N/DQ2T (io), B11 IO_8A_B11/DIFFIO_TX_T6N/DQ1T (io), B12 IO_8A_B12/DIFFIO_RX_T3N/DQ1T (io), B13 IO_8A_B13/DIFFIO_TX_T2P/DQ1T (io), C2 IO_8A_C2/DIFFIO_TX_T30N/DQ4T (io), C3 IO_8A_C3/DIFFIO_TX_T28P/DQ4T (io), C4 IO_8A_C4/DIFFIO_TX_T22N/DQ3T (io), C5 IO_8A_C5/DIFFIO_TX_T20N/DQ3T (io), C7 IO_8A_C7/DIFFIO_TX_T10P/DQ2T (io), C8 IO_8A_C8/DIFFIO_TX_T12P/DQ2T (io), C9 IO_8A_C9/DIFFIO_TX_T14N/DQ2T (io), C10 IO_8A_C10/DIFFIO_TX_T14P (io), C12 IO_8A_C12/DIFFIO_TX_T6P (io), C13 IO_8A_C13/DIFFIO_RX_T3P/DQ1T (io), D1 IO_8A_D1/DIFFIO_TX_T36N/DQ5T (io), D2 IO_8A_D2/DIFFIO_TX_T30P (io), D4 IO_8A_D4/DIFFIO_TX_T32N (io), D5 IO_8A_D5/DIFFIO_TX_T22P (io), D6 IO_8A_D6/DIFFIO_TX_T20P/DQ3T (io), D7 IO_8A_D7/DIFFIO_TX_T24N (io), D9 IO_8A_D9/DIFFIO_RX_T11N/DQ2T (io), D10 IO_8A_D10/DIFFIO_RX_T7N/DQ1T (io), D11 IO_8A_D11/DIFFIO_RX_T7P/DQ1T (io), D12 IO_8A_D12/DIFFIO_RX_T19N/DQ3T (io), E1 IO_8A_E1/DIFFIO_TX_T36P/DQ5T (io), E2 IO_8A_E2/DIFFIO_TX_T34N/DQ5T (io), E3 IO_8A_E3/DIFFIO_TX_T34P/DQ5T (io), E4 IO_8A_E4/DIFFIO_TX_T32P/DQ4T (io), E6 IO_8A_E6/DIFFIO_TX_T38N/DQ5T (io), E7 IO_8A_E7/DIFFIO_TX_T38P (io), E8 IO_8A_E8/DIFFIO_TX_T24P/DQ3T (io), E9 IO_8A_E9/DIFFIO_RX_T11P/DQ2T (io), E11 IO_8A_E11/DIFFIO_RX_T23N/DQ3T (io), E12 IO_8A_E12/DIFFIO_RX_T19P/DQ3T (io), E13 IO_8A_E13/DIFFIO_RX_T15N/DQ2T (io), F6 IO_8A_F6/DIFFIO_TX_T40N (io), F8 IO_8A_F8/DIFFIO_RX_T39N/DQ5T (io), F9 IO_8A_F9/DIFFIO_RX_T39P/DQ5T (io), F10 IO_8A_F10/DIFFIO_RX_T35N/DQ5T (io), F11 IO_8A_F11/DIFFIO_RX_T23P/DQ3T (io), F13 IO_8A_F13/DIFFIO_RX_T15P/DQ2T (io), F14 IO_8A_F14/DIFFIO_RX_T5N/DQSN1T (io), F15 IO_8A_F15/DIFFIO_RX_T5P/DQS1T (io), G7 IO_8A_G7/DIFFIO_TX_T40P/DQ5T (io), G8 IO_8A_G8/DIFFIO_RX_T17N (io), G10 IO_8A_G10/DIFFIO_RX_T35P/DQ5T (io), G11 IO_8A_G11/DIFFIO_RX_T31N/DQ4T (io), G12 IO_8A_G12/DIFFIO_RX_T31P/DQ4T (io), G13 IO_8A_G13/DIFFIO_RX_T13N/DQSN2T (io), H7 IO_8A_H7/DIFFIO_RX_T25N (io), H8 IO_8A_H8/DIFFIO_RX_T17P (io), H12 IO_8A_H12/DIFFIO_RX_T21N/DQSN3T (io), H13 IO_8A_H13/DIFFIO_RX_T21P/DQS3T (io), H14 IO_8A_H14/DIFFIO_RX_T13P/DQS2T (io), J7 IO_8A_J7/DIFFIO_RX_T25P (io), J9 IO_8A_J9/DIFFIO_RX_T37N/DQSN5T (io), J10 IO_8A_J10/DIFFIO_RX_T37P/DQS5T (io), J12 IO_8A_J12/DIFFIO_RX_T29N/DQSN4T (io), J14 IO_8A_J14/CLK6N,FPLL_TL_FBN/DIFFIO_RX_T9N (io), K7 IO_8A_K7/DIFFIO_RX_T33P (io), K8 IO_8A_K8/DIFFIO_RX_T33N (io), K12 IO_8A_K12/DIFFIO_RX_T29P/DQS4T (io), K14 IO_8A_K14/CLK6P,FPLL_TL_FBP/DIFFIO_RX_T9P (io)
part H pins: AA16 IO_4A_AA16/CLK2P/DIFFIO_RX_B47P (io), AA26 IO_5B_AA26/CLK5P/DIFFIO_RX_R21P/DQS3R (io), AA29 VREFB5BN0_5B_AA29 (io), AB17 IO_4A_AB17/CLK2N/DIFFIO_RX_B47N (io), AB27 IO_5B_AB27/CLK5N/DIFFIO_RX_R21N/DQSN3R (io), AC18 IO_4A_AC18/CLK3P/DIFFIO_RX_B55P (io), AC24 VREFB5AN0_5A_AC24 (io), AC30 IO_5B_AC30/RZQ_2/DIFFIO_TX_R24N (io), AD6 VREFB3AN0_3A_AD6 (io), AD17 IO_4A_AD17/CLK3N/DIFFIO_RX_B55N (io), AG17 IO_4A_AG17/RZQ_0/DIFFIO_TX_B41N (io), AG27 IO_5A_AG27/RZQ_1/DIFFIO_TX_R1P/DQ1R (io), AJ15 VREFB3BN0_3B_AJ15 (io), AK17 VREFB4AN0_4A_AK17 (io), B10 VREFB8AN0_8A_B10 (io), E22 VREFB7A7B7C7DN0_HPS__E22 (io), G15 IO_8A_G15/CLK7N/DIFFIO_RX_T1N (io), G27 VREFB6AN0_HPS_6A_G27 (io), H15 IO_8A_H15/CLK7P/DIFFIO_RX_T1P (io), U30 VREFB6BN0_HPS_6B_U30 (io), W15 IO_3B_W15/CLK1P/DIFFIO_RX_B39P (io), Y16 IO_3B_Y16/CLK1N/DIFFIO_RX_B39N (io)
part I pins: AB8 NCSO_3A_AB8/DATA4 (io), AB9 TDO (io), AC5 TCK (io), AC7 AS_DATA3_3A_AC7/DATA3 (io), AC9 IO_3A_AC9/DATA12/DIFFIO_RX_B3P/DQS1B (io), AC25 IO_5A_AC25/CRC_ERROR/DIFFIO_RX_R2N (io), AD7 IO_3A_AD7/CLKUSR/DIFFIO_RX_B5P/DQ1B (io), AD9 IO_3A_AD9/DATA7/DIFFIO_TX_B2P/DQ1B (io), AD10 IO_3A_AD10/DATA10/DIFFIO_RX_B3N/DQSN1B (io), AD11 IO_3A_AD11/DATA8/DIFFIO_RX_B1P/DQ1B (io), AD25 IO_5A_AD25/INIT_DONE/DIFFIO_RX_R2P (io), AD27 IO_5A_AD27/DEV_CLRN/DIFFIO_TX_R5N/DQ1R (io), AE5 AS_DATA1_3A_AE5/DATA1 (io), AE6 AS_DATA0,ASDO_3A_AE6/DATA0 (io), AE7 IO_3A_AE7/DATA14/DIFFIO_RX_B5N/DQ1B (io), AE8 AS_DATA2_3A_AE8/DATA2 (io), AE9 IO_3A_AE9/DATA5/DIFFIO_TX_B2N (io), AE11 IO_3A_AE11/DATA11/DIFFIO_TX_B4P (io), AE12 IO_3A_AE12/DATA6/DIFFIO_RX_B1N/DQ1B (io), AE26 IO_5A_AE26/DEV_OE/DIFFIO_TX_R5P (io), AF4 IO_3A_AF4/PR_ERROR/DIFFIO_RX_B7P (io), AF5 IO_3A_AF5/PR_DONE/DIFFIO_RX_B7N (io), AF10 IO_3A_AF10/DATA9/DIFFIO_TX_B4N/DQ1B (io), AG3 IO_3A_AG3/DATA15/DIFFIO_TX_B6P/DQ1B (io), AG8 IO_3A_AG8/PR_READY/DIFFIO_TX_B8N/DQ1B (io), AH4 IO_3A_AH4/DATA13/DIFFIO_TX_B6N/DQ1B (io), AH28 IO_5A_AH28/PR_REQUEST/DIFFIO_TX_R1N/DQ1R (io), AH29 IO_5A_AH29/CVP_CONFDONE/DIFFIO_TX_R3N/DQ1R (io), AJ29 IO_5A_AJ29/NCEO/DIFFIO_TX_R3P/DQ1R (io), F3 CONF_DONE (io), F4 NSTATUS (io), G5 NCE (io), G6 MSEL2 (io), J5 NCONFIG (io), K6 MSEL1 (io), L7 MSEL3 (io), L8 MSEL0 (io), L9 MSEL4 (io), U7 DCLK (io), U8 TDI (io), V9 TMS (io), W21 IO_5A_W21/NPERSTL0/DIFFIO_RX_R6P/DQS1R (io), W22 IO_5A_W22/NPERSTL1/DIFFIO_RX_R6N/DQSN1R (io)
part J pins: AA1 GXB_RX_L2N,GXB_REFCLK_L2N__AA1 (io), AA2 GXB_RX_L2P,GXB_REFCLK_L2P__AA2 (io), AA7 DNU__AA7 (io), AB3 GXB_TX_L1N__AB3 (io), AB4 GXB_TX_L1P__AB4 (io), AC1 GXB_RX_L1N,GXB_REFCLK_L1N__AC1 (io), AC2 GXB_RX_L1P,GXB_REFCLK_L1P__AC2 (io), AD3 GXB_TX_L0N__AD3 (io), AD4 GXB_TX_L0P__AD4 (io), AD15 DNU__AD15 (io), AE1 GXB_RX_L0N,GXB_REFCLK_L0N__AE1 (io), AE2 GXB_RX_L0P,GXB_REFCLK_L0P__AE2 (io), E26 DNU__E26 (io), F1 DNU__F1 (io), G1 RREF_TL__G1 (io), G2 DNU__G2 (io), H3 GXB_TX_L8N__H3 (io), H4 GXB_TX_L8P__H4 (io), J1 GXB_RX_L8N,GXB_REFCLK_L8N__J1 (io), J2 GXB_RX_L8P,GXB_REFCLK_L8P__J2 (io), J15 DNU__J15 (io), K3 GXB_TX_L7N__K3 (io), K4 GXB_TX_L7P__K4 (io), L1 GXB_RX_L7N,GXB_REFCLK_L7N__L1 (io), L2 GXB_RX_L7P,GXB_REFCLK_L7P__L2 (io), M3 GXB_TX_L6N__M3 (io), M4 GXB_TX_L6P__M4 (io), N1 GXB_RX_L6N,GXB_REFCLK_L6N__N1 (io), N2 GXB_RX_L6P,GXB_REFCLK_L6P__N2 (io), P3 GXB_TX_L5N__P3 (io), P4 GXB_TX_L5P__P4 (io), P8 REFCLK2LN__P8 (io), P9 REFCLK2LP__P9 (io), R1 GXB_RX_L5N,GXB_REFCLK_L5N__R1 (io), R2 GXB_RX_L5P,GXB_REFCLK_L5P__R2 (io), T3 GXB_TX_L4N__T3 (io), T4 GXB_TX_L4P__T4 (io), T8 REFCLK1LN__T8 (io), T9 REFCLK1LP__T9 (io), U1 GXB_RX_L4N,GXB_REFCLK_L4N__U1 (io), U2 GXB_RX_L4P,GXB_REFCLK_L4P__U2 (io), V3 GXB_TX_L3N__V3 (io), V4 GXB_TX_L3P__V4 (io), W1 GXB_RX_L3N,GXB_REFCLK_L3N__W1 (io), W2 GXB_RX_L3P,GXB_REFCLK_L3P__W2 (io), W7 REFCLK0LN__W7 (io), W8 REFCLK0LP__W8 (io), Y3 GXB_TX_L2N__Y3 (io), Y4 GXB_TX_L2P__Y4 (io)
part K pins: A2 GND__A2 (power), A12 GND__A12 (power), A17 GND__A17 (power), A22 GND__A22 (power), A26 GND__A26 (power), A27 GND__A27 (power), AA3 GND__AA3 (power), AA4 GND__AA4 (power), AA6 GND__AA6 (power), AA9 GND__AA9 (power), AA11 GND__AA11 (power), AA22 GND__AA22 (power), AB1 GND__AB1 (power), AB2 GND__AB2 (power), AB5 GND__AB5 (power), AB7 GND__AB7 (power), AB19 GND__AB19 (power), AB29 GND__AB29 (power), AC3 GND__AC3 (power), AC4 GND__AC4 (power), AC6 GND__AC6 (power), AC8 GND__AC8 (power), AC16 GND__AC16 (power), AC26 GND__AC26 (power), AD1 GND__AD1 (power), AD2 GND__AD2 (power), AD5 GND__AD5 (power), AD23 GND__AD23 (power), AE3 GND__AE3 (power), AE4 GND__AE4 (power), AE10 GND__AE10 (power), AE20 GND__AE20 (power), AF1 GND__AF1 (power), AF2 GND__AF2 (power), AF3 GND__AF3 (power), AF12 GND__AF12 (power), AF17 GND__AF17 (power), AF27 GND__AF27 (power), AG9 GND__AG9 (power), AG14 GND__AG14 (power), AG24 GND__AG24 (power), AH1 GND__AH1 (power), AH6 GND__AH6 (power), AH11 GND__AH11 (power), AH21 GND__AH21 (power), AJ3 GND__AJ3 (power), AJ18 GND__AJ18 (power), AJ28 GND__AJ28 (power), AJ30 GND__AJ30 (power), AK5 GND__AK5 (power), AK15 GND__AK15 (power), AK25 GND__AK25 (power), B9 GND__B9 (power), B14 GND__B14 (power), B19 GND__B19 (power), B24 GND__B24 (power), B29 GND__B29 (power), C1 GND__C1 (power), C6 GND__C6/ (power), C16 GND__C16 (power), C21 GND__C21 (power), C26 GND__C26 (power), D3 GND__D3/ (power), D13 GND__D13 (power), D23 GND__D23/ (power), D26 GND__D26/ (power), E10 GND__E10/ (power), E25 GND__E25/ (power), E30 GND__E30/ (power), F2 GND__F2/ (power), F5 GND__F5/ (power), F7 GND__F7/ (power), F17 GND__F17/ (power), F27 GND__F27/ (power), G3 GND__G3/ (power), G4 GND__G4/ (power), G24 GND__G24 (power), H1 GND__H1/ (power), H2 GND__H2 (power), H5 GND__H5/ (power), H11 GND__H11/ (power), J3 GND__J3/ (power), J4 GND__J4/ (power), J6 GND__J6/ (power), J8 GND__J8/ (power), J18 GND__J18/ (power), J22 GND__J22/ (power), J28 GND__J28/ (power), K1 GND__K1/ (power), K2 GND__K2/ (power), K5 GND__K5/ (power), K10 GND__K10/ (power), K15 GND__K15/ (power), K20 GND__K20/ (power), K25 GND__K25/ (power), L3 GND__L3/ (power), L4 GND__L4/ (power), L6 GND__L6/ (power), L11 GND__L11/ (power), L13 GND__L13/ (power), L15 GND__L15/ (power), L17 GND__L17/ (power), L19 GND__L19 (power), L22 GND__L22/ (power), M1 GND__M1/ (power), M2 GND__M2/ (power), M5 GND__M5 (power), M7 GND__M7/ (power), M8 GND__M8/ (power), M10 GND__M10 (power), M12 GND__M12/ (power), M14 GND__M14/ (power), M16 GND__M16/ (power), M18 GND__M18/ (power), M20 GND__M20/ (power), M29 GND__M29/ (power), N3 GND__N3/ (power), N4 GND__N4/ (power), N6 GND__N6/ (power), N8 GND__N8/ (power), N9 GND__N9/ (power), N11 GND__N11/ (power), N13 GND__N13/ (power), N15 GND__N15/ (power), N17 GND__N17 (power), N19 GND__N19/ (power), N26 GND__N26/ (power), P1 GND__P1/ (power), P2 GND__P2/ (power), P5 GND__P5/ (power), P7 GND__P7/ (power), P10 GND__P10/ (power), P12 GND__P12/ (power), P14 GND__P14/ (power), P16 GND__P16/ (power), P18 GND__P18/ (power), P20 GND__P20/ (power), R3 GND__R3/ (power), R4 GND__R4/ (power), R6 GND__R6/ (power), R8 GND__R8/ (power), R9 GND__R9/ (power), R11 GND__R11/ (power), R13 GND__R13/ (power), R15 GND__R15/ (power), R17 GND__R17/ (power), R30 GND__R30/ (power), T1 GND__T1/ (power), T2 GND__T2/ (power), T5 GND__T5/ (power), T7 GND__T7/ (power), T10 GND__T10/ (power), T12 GND__T12/ (power), T14 GND__T14/ (power), T15 GND__T15/ (power), T16 GND__T16/ (power), T18 GND__T18/ (power), T20 GND__T20 (power), T27 GND__T27/ (power), U3 GND__U3 (power), U4 GND__U4 (power), U6 GND__U6 (power), U9 GND__U9 (power), U11 GND__U11/ (power), U13 GND__U13 (power), U15 GND__U15 (power), U17 GND__U17 (power), U22 GND__U22 (power), U24 GND__U24 (power), U29 GND__U29 (power), V1 GND__V1 (power), V2 GND__V2 (power), V5 GND__V5 (power), V7 GND__V7 (power), V10 GND__V10 (power), V12 GND__V12 (power), V14 GND__V14 (power), V19 GND__V19 (power), V21 GND__V21 (power), W3 GND__W3 (power), W4 GND__W4 (power), W6 GND__W6 (power), W9 GND__W9 (power), W11 GND__W11 (power), W13 GND__W13 (power), W18 GND__W18 (power), W28 GND__W28 (power), Y1 GND__Y1 (power), Y2 GND__Y2 (power), Y5 GND__Y5 (power), Y7 GND__Y7 (power), Y8 GND__Y8 (power), Y10 GND__Y10 (power), Y12 GND__Y12 (power), Y14 GND__Y14 (power), Y15 GND__Y15 (power), Y20 GND__Y20 (power), Y25 GND__Y25 (power), Y30 GND__Y30 (power)